# EAGLE library part J2500-12P-S (library jfa)
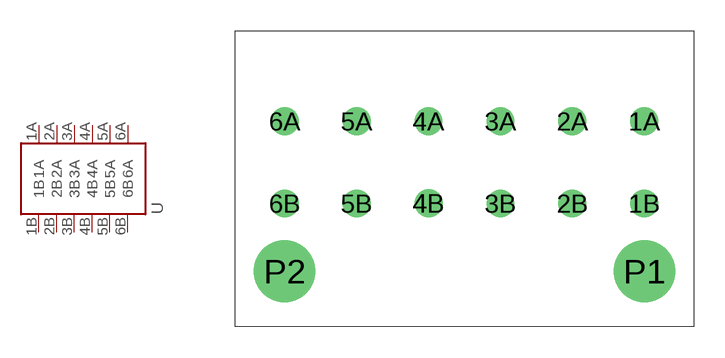
[diagram p1: symbol with the pads of J2500-12P-S; footprint J2500-12P-S]

Designator prefix -

## J2500-12P-S  [J2500-12P-S]
1A  1A
1B  1B
2A  2A
2B  2B
3A  3A
3B  3B
4A  4A
4B  4B
5A  5A
5B  5B
6A  6A
6B  6B

## Footprint J2500-12P-S (pad centres in mm)
drill 0.85: 1A 8.75,4; 1B 8.75,0; 2A 5.25,4; 2B 5.25,0; 3A 1.75,4; 3B 1.75,0; 4A -1.75,4; 5A -5.25,4; 5B -5.25,0; 6A -8.75,4; 6B -8.75,0
drill 0.853: 4B -1.75,0
drill 2 pad 3: P1 8.75,-3.3; P2 -8.75,-3.3